# Altium schematic symbol library DT15-4P.SchLib: 1 symbol
Pins are listed as number, name and electrical type; pins without a type are passive.

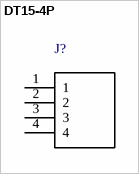
[diagram p0: symbol DT15-4P]

## DT15-4P
designator J?  (value not drawn)
/ DT Series 4 Position 16 AWG Flange Mount Male Pin Through Hole Receptacle Header /; MF: TE Connectivity; Package: None; Digi-Key_Purchase_URL: https://www.digikey.com/product-detail/en/te-connectivity-deutsch-connectors/DT15-4P/1734-1030-ND/6566594?utm_source=snapeda&utm_medium=aggregator&utm_campaign=symbol; MP: DT15-4P; TE_purchase_URL: https://www.te.com/usa-en/product-DT15-4P.html?te_bu=Cor&te_type=disp&te_campaign=seda_glo_cor-seda-global-disp-prtnr-fy19-seda-model-bom-cta_sma-317_1&elqCampaignId=32493; Digi-Key_Part_Number: 1734-1030-ND; SnapEDA_Link: https://www.snapeda.com/parts/DT15-4P/TE%20Connectivity%20Deutsch%20Connectors/view-part/?ref=snap; Value: *
footprint TE_DT15-4P
pins: 1, 2, 3, 4